# Altium footprint library 器件封装.PCBLIB: 225 footprints (part 7 of 15)
Each footprint in its own frame and in the unit in brackets; x right, y up, seen from the top. Pads: shape width x height; smd on the part's side, far side on the other; paste and mask are expansions set on the pad; w line width, h text height; cw(c..) or ccw(c..) is an arc to the next point about the centre after c.
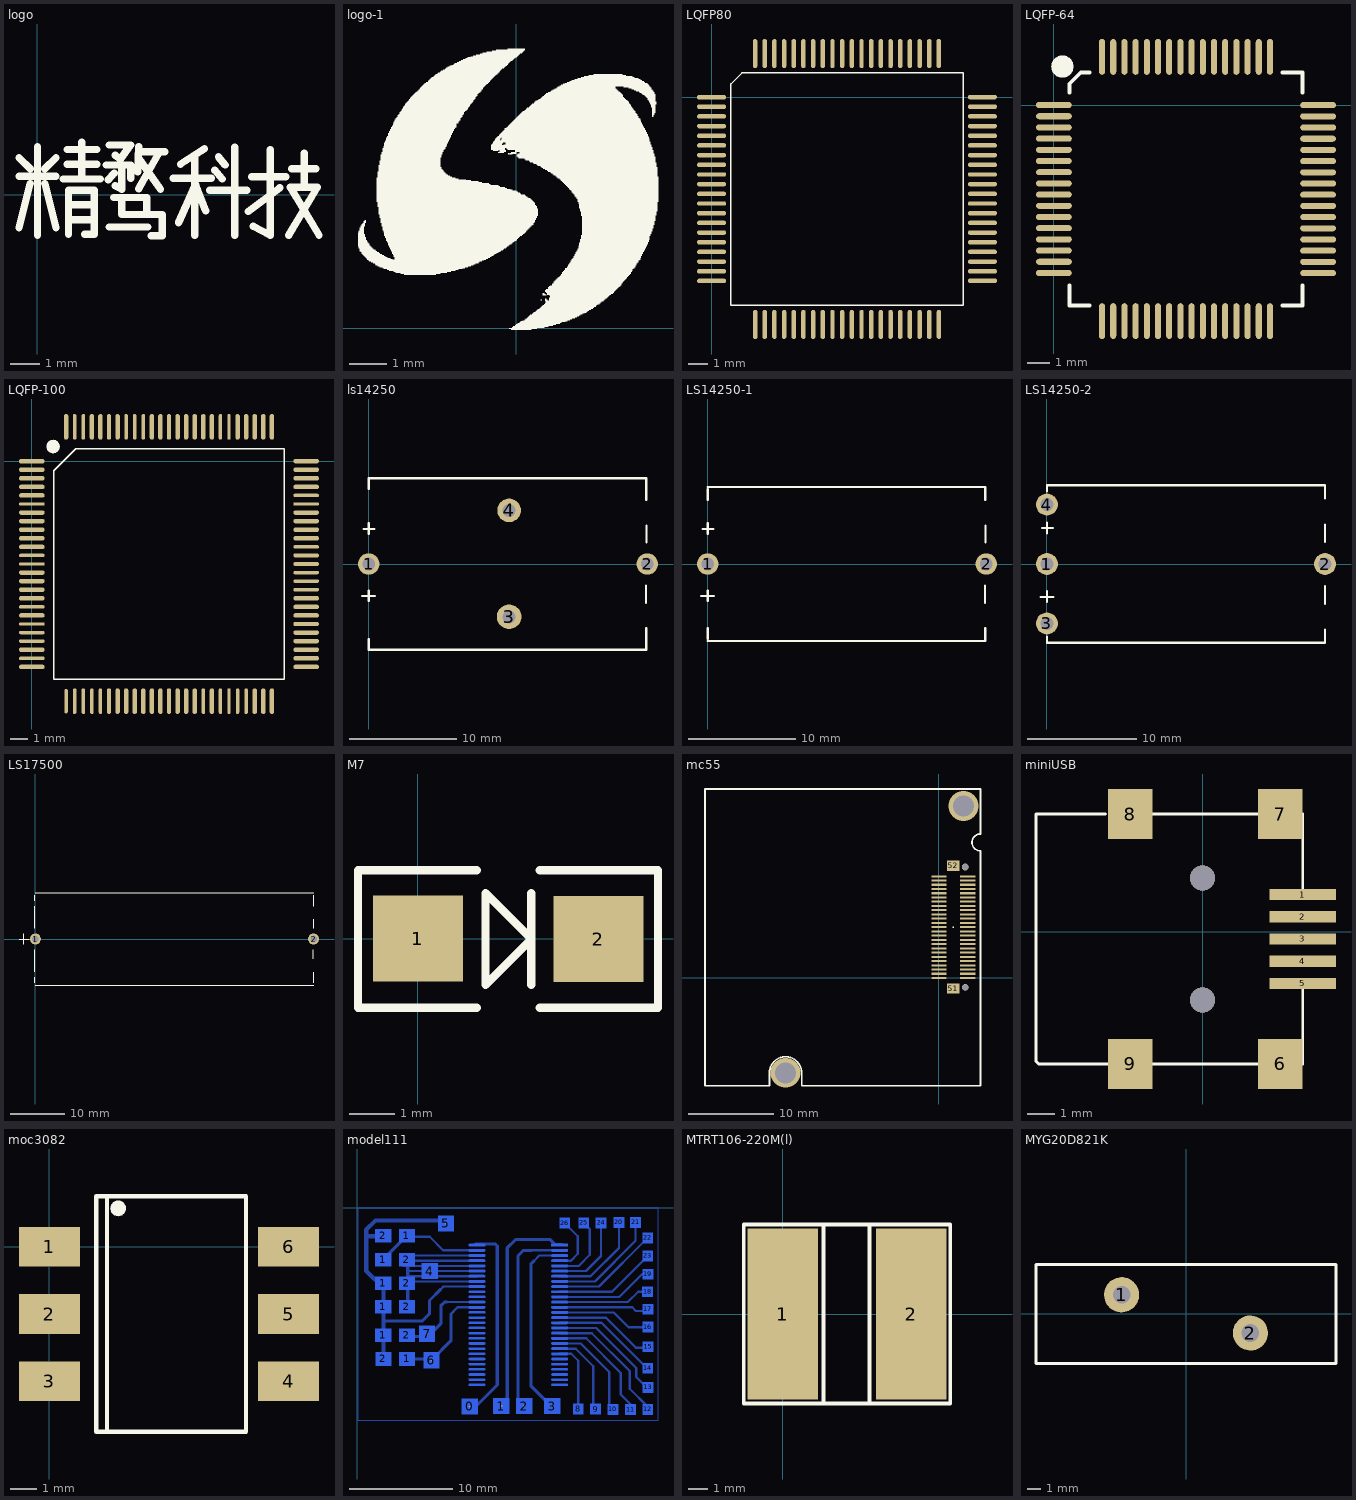
[diagram p6: the footprints below, top view; thin cyan lines are the x and y axes]

## logo [mm]
TopOverlay:
  lines w0.254: -0.635,-1.143 -0.254,0.381 ; -0.635,0.635 0.635,0.635 ; -0.635,1.27 -0.254,0.889 ; 0,-1.397 0,1.651 ; 0.254,0.381 0.635,-1.143 ; 0.254,0.889 0.635,1.27 ; 0.889,0.533 2.159,0.533 ; 1.016,1.041 2.032,1.041 ; 1.016,1.549 2.032,1.549 ; 1.067,-1.372 1.067,0.152 1.956,0.152 1.956,-1.372 1.626,-1.372 ; 1.067,-0.864 1.956,-0.864 ; 1.067,-0.356 1.956,-0.356 ; 1.524,0.533 1.524,1.803 ; 2.362,1.016 3.2,1.016 3.2,0.559 ; 2.438,0.508 2.642,0.737 ; 2.464,-1.118 3.785,-1.118 ; 2.464,1.702 3.2,1.702 2.845,1.219 2.667,1.346 ; 2.616,-0.102 3.759,-0.102 3.759,-0.66 ; 2.667,0.305 2.896,0.178 2.896,1.016 ; 2.896,-0.102 2.896,-0.686 4.293,-0.686 4.293,-1.422 3.912,-1.422 ; 3.445,0.787 3.48,1.651 ; 3.464,1.259 4.228,0.186 ; 3.472,1.467 4.373,1.468 ; 3.48,0.203 4.143,1.371 ; 4.674,0.559 5.969,0.559 ; 4.849,-0.967 5.41,0.305 ; 4.917,1.047 5.742,1.573 ; 5.41,-1.397 5.41,1.245 ; 5.436,0.33 5.781,-0.552 ; 5.918,0.152 7.188,0.152 ; 6.096,0.838 6.35,0.533 ; 6.223,1.295 6.452,1.016 ; 6.782,-1.397 6.782,1.626 ; 7.239,-0.584 8.331,0.229 ; 7.366,0.61 8.534,0.61 ; 7.417,-1.092 8.001,-1.397 8.001,1.549 ; 8.636,-1.397 9.627,0.254 8.687,0.254 9.677,-1.397 ; 8.738,0.889 9.576,0.889 ; 9.169,0.254 9.169,1.422

## logo-1 [mm]
TopOverlay:
  drawing of 605 lines, arcs and shapes, not listed

## LQFP80 [mm]
pads (80):
  oct 1.5x0.23 smd: 1(0,0) 41(14,-9.5)
  oval 1.5x0.23 smd: 2(0,-0.5) 3(0,-1) 4(0,-1.5) 5(0,-2) 6(0,-2.5) 7(0,-3) 8(0,-3.5) 9(0,-4) 10(0,-4.5) 11(0,-5) 12(0,-5.5) 13(0,-6) 14(0,-6.5) 15(0,-7) 16(0,-7.5) 17(0,-8) 18(0,-8.5) 19(0,-9) 20(0,-9.5) 42(14,-9) 43(14,-8.5) 44(14,-8) 45(14,-7.5) 46(14,-7) 47(14,-6.5) 48(14,-6) 49(14,-5.5) 50(14,-5) 51(14,-4.5) 52(14,-4) 53(14,-3.5) 54(14,-3) 55(14,-2.5) 56(14,-2) 57(14,-1.5) 58(14,-1) 59(14,-0.5) 60(14,0)
  oct 0.23x1.5 smd: 21(2.25,-11.75) 61(11.75,2.25)
  oval 0.23x1.5 smd: 22(2.75,-11.75) 23(3.25,-11.75) 24(3.75,-11.75) 25(4.25,-11.75) 26(4.75,-11.75) 27(5.25,-11.75) 28(5.75,-11.75) 29(6.25,-11.75) 30(6.75,-11.75) 31(7.25,-11.75) 32(7.75,-11.75) 33(8.25,-11.75) 34(8.75,-11.75) 35(9.25,-11.75) 36(9.75,-11.75) 37(10.25,-11.75) 38(10.75,-11.75) 39(11.25,-11.75) 40(11.75,-11.75) 62(11.25,2.25) 63(10.75,2.25) 64(10.25,2.25) 65(9.75,2.25) 66(9.25,2.25) 67(8.75,2.25) 68(8.25,2.25) 69(7.75,2.25) 70(7.25,2.25) 71(6.75,2.25) 72(6.25,2.25) 73(5.75,2.25) 74(5.25,2.25) 75(4.75,2.25) 76(4.25,2.25) 77(3.75,2.25) 78(3.25,2.25) 79(2.75,2.25) 80(2.25,2.25)
TopOverlay:
  lines w0.076: 1,0.68 1,-10.75 13,-10.75 13,1.25 1.57,1.25
  lines w0.08: 1,0.68 1.57,1.25

## LQFP-64 [mm]
pads (65):
  oval 1.6x0.27 smd: 1(0,0) 2(0,-0.5) 3(0,-1) 4(0,-1.5) 5(0,-2) 6(0,-2.5) 7(0,-3) 8(0,-3.5) 9(0,-4) 10(0,-4.5) 11(0,-5) 12(0,-5.5) 13(0,-6) 14(0,-6.5) 15(0,-7) 16(0,-7.5) 33(11.8,-7.505) 34(11.8,-7.005) 35(11.8,-6.505) 36(11.8,-6.005) 37(11.8,-5.505) 38(11.8,-5.005) 39(11.8,-4.505) 40(11.8,-4.005) 41(11.8,-3.505) 42(11.8,-3.005) 43(11.8,-2.505) 44(11.8,-2.005) 45(11.8,-1.505) 46(11.8,-1.005) 47(11.8,-0.505) 48(11.8,-0.005)
  oval 0.27x1.6 smd: 17(2.15,-9.65) 18(2.65,-9.65) 19(3.15,-9.65) 20(3.65,-9.65) 21(4.15,-9.65) 22(4.65,-9.65) 23(5.15,-9.65) 24(5.65,-9.65) 25(6.15,-9.65) 26(6.65,-9.65) 27(7.15,-9.65) 28(7.65,-9.65) 29(8.15,-9.65) 30(8.65,-9.65) 31(9.15,-9.65) 32(9.65,-9.65) 49(9.65,2.15) 50(9.15,2.15) 51(8.65,2.15) 52(8.15,2.15) 53(7.65,2.15) 54(7.15,2.15) 55(6.65,2.15) 56(6.15,2.15) 57(5.65,2.15) 58(5.15,2.15) 59(4.65,2.15) 60(4.15,2.15) 61(3.65,2.15) 62(3.15,2.15) 63(2.65,2.15) 64(2.15,2.15)
  round 1 on Top Overlay: ""(0.38,1.72)
TopOverlay:
  lines w0.17: 0.7,-8.05 0.7,-8.95 1.6,-8.95 ; 0.7,0.55 0.7,0.95 1.2,1.45 1.6,1.45 ; 10.2,-8.95 11.1,-8.95 11.1,-8.05 ; 10.2,1.45 11.1,1.45 11.1,0.55

## LQFP-100 [mm]
pads (101):
  oct 1.5x0.26 smd: 1(0,0)
  oval 1.5x0.26 smd: 2(0,-0.5) 3(0,-1) 4(0,-1.5) 5(0,-2) 7(0,-3) 8(0,-3.5) 9(0,-4) 10(0,-4.5) 11(0,-5) 14(0,-6.5) 15(0,-7) 16(0,-7.5) 17(0,-8) 19(0,-9) 23(0,-11) 25(0,-12) 51(16,-12) 52(16,-11.5) 53(16,-11) 54(16,-10.5) 55(16,-10) 56(16,-9.5) 57(16,-9) 58(16,-8.5) 59(16,-8) 66(16,-4.5) 67(16,-4) 68(16,-3.5) 69(16,-3) 72(16,-1.5) 73(16,-1) 74(16,-0.5) 75(16,0)
  oval 1.5x0.2 smd: 6(0,-2.5) 12(0,-5.5) 13(0,-6) 18(0,-8.5) 20(0,-9.5) 21(0,-10) 22(0,-10.5) 24(0,-11.5) 60(16,-7.5) 61(16,-7) 62(16,-6.5) 65(16,-5) 70(16,-2.5) 71(16,-2)
  oval 0.2x1.422 smd: 26(2,-14)
  oval 0.2x1.5 smd: 27(2.5,-14) 28(3,-14) 29(3.5,-14) 30(4,-14) 42(10,-14) 44(11,-14) 45(11.5,-14) 46(12,-14) 47(12.5,-14) 81(11.5,2) 82(11,2) 91(6.5,2) 92(6,2) 93(5.5,2) 98(3,2) 99(2.5,2)
  oval 0.26x1.5 smd: 31(4.5,-14) 32(5,-14) 33(5.5,-14) 34(6,-14) 35(6.5,-14) 36(7,-14) 37(7.5,-14) 38(8,-14) 39(8.5,-14) 40(9,-14) 41(9.5,-14) 43(10.5,-14) 48(13,-14) 49(13.5,-14) 50(14,-14) 76(14,2) 77(13.5,2) 78(13,2) 79(12.5,2) 80(12,2) 83(10.5,2) 84(10,2) 85(9.5,2) 86(9,2) 87(8.5,2) 88(8,2) 89(7.5,2) 90(7,2) 94(5,2) 95(4.5,2) 96(4,2) 97(3.5,2) 100(2,2)
  oval 1.5x0.23 smd: 63(16,-6) 64(16,-5.5)
  round 0.8 on Top Overlay: ""(1.24,0.85)
TopOverlay:
  lines w0.076: 1.285,-12.715 1.285,-0.57 2.57,0.715 14.715,0.715 14.715,-12.715 1.285,-12.715

## ls14250 [mm]
pads (4):
  round 2 hole 1.2: 1(0,0) 2(26,0)
  round 2.3 hole 1.2: 3(13.1,-4.93)
  round 2.2 hole 1.2: 4(13.1,5)
TopOverlay:
  lines w0.2: -0.6,-3 0.6,-3 ; -0.46,3.28 0.54,3.28 ; 0,-7 0,-8 ; 0,-3.464 0,-2.464 ; 0,2.8 0,3.8 ; 0,7 0,8 ; 1,-8 0,-8 ; 1,8 0,8 ; 25.89,-3.65 25.89,-2 ; 25.9,-6 25.9,-8 0,-8 ; 25.9,5.98 25.9,8 0,8 ; 25.92,2.01 25.92,3.59

## LS14250-1 [mm]
pads (2):
  round 2 hole 1.2: 1(0,0) 2(26,0)
TopOverlay:
  lines w0.2: -0.6,-3 0.6,-3 ; -0.46,3.28 0.54,3.28 ; 0,-7.2 25.9,-7.2 25.9,-5.98 ; 0,-6.984 0,-5.984 ; 0,-3.464 0,-2.464 ; 0,2.8 0,3.8 ; 0,5.984 0,6.984 ; 0,7.2 25.9,7.2 25.9,5.98 ; 25.89,-3.65 25.89,-2 ; 25.92,2.01 25.92,3.59

## LS14250-2 [mm]
pads (4):
  round 2 hole 1.2: 1(0,0) 2(25.4,0) 3(0,-5.43) 4(0,5.43)
TopOverlay:
  lines w0.2: -0.6,-3 0.6,-3 ; -0.46,3.28 0.54,3.28 ; 0,-6.65 0,-7.2 25.4,-7.2 25.4,-5.98 ; 0,-3.464 0,-2.464 ; 0,2.8 0,3.8 ; 0,6.65 0,7.2 25.4,7.2 25.4,5.98 ; 25.4,-3.65 25.4,-2 ; 25.4,2.01 25.4,3.59

## LS17500 [mm]
pads (2):
  round 2 hole 1.2: 1(0,0) 2(50.9,0)
TopOverlay:
  lines w0.2: -3,0 -1.1,0 ; -2.1,-1 -2.1,1 ; -0.1,-8 -0.1,-7 ; -0.1,-6 -0.1,-2 ; -0.1,2 -0.1,6 ; -0.1,7 -0.1,8 ; 0,-8.5 50.9,-8.5 ; 0,8.5 50.9,8.5 ; 50.89,-3.65 50.89,-2 ; 50.9,-8 50.9,-6.1 ; 50.9,5.98 50.9,8 ; 50.92,2.01 50.92,3.59

## M7 [mm]
pads (2):
  rect 2x1.9 smd: 1(0,0) 2(4,-0.01)
TopOverlay:
  lines w0.185: 1.3,-1.534 -1.33,-1.534 -1.33,1.514 1.3,1.514 ; 2.512,-1.026 2.512,1.006 ; 2.7,-1.534 5.32,-1.534 5.32,1.514 2.7,1.514 ; 1.496,-1.026 1.496,1.006 2.512,-0.01 1.496,-1.026

## mc55 [mm]
pads (53):
  round 0.2 on Top Overlay: 0(1.7,6)
  rect 1.8x0.24 smd: 1(0,0) 2(0,0.5) 3(0,1) 4(0,1.5) 5(0,2) 6(0,2.5) 7(0,3) 8(0,3.5) 9(0,4) 10(0,4.5) 11(0,5) 12(0,5.5) 13(0,6) 14(0,6.5) 15(0,7) 16(0,7.5) 17(0,8) 18(0,8.5) 19(0,9) 20(0,9.5) 21(0,10) 22(0,10.5) 23(0,11) 24(0,11.5) 25(0,12) 26(3.4,12) 27(3.4,11.5) 28(3.4,11) 29(3.4,10.5) 30(3.4,10) 31(3.4,9.5) 32(3.4,9) 33(3.4,8.5) 34(3.4,8) 35(3.4,7.5) 36(3.4,7) 37(3.4,6.5) 38(3.4,6) 39(3.4,5.5) 40(3.4,5) 41(3.4,4.5) 42(3.4,4) 43(3.4,3.5) 44(3.4,3) 45(3.4,2.5) 46(3.4,2) 47(3.4,1.5) 48(3.4,1) 49(3.4,0.5) 50(3.4,0)
  rect 1.5x1.2 smd: 51(1.7,-1.25) 52(1.7,13.25)
via 3.1,13.1 diameter 0.8 hole 0.72
via 3.1,-1.1 diameter 0.8 hole 0.72
via 2.9,20.3 diameter 3.5 hole 2.5
via -18.1,-11.2 diameter 3.5 hole 2.5
TopOverlay:
  lines w0.2: -27.6,-12.7 -20,-12.7 -20,-11.2 cw(c-18.1,-11.2) -16.2,-11.2 -16.2,-12.7 4.9,-12.7 4.9,15 cw(c4.9,16) 4.9,17 4.9,22.3 -27.6,22.3 -27.6,-12.7

## miniUSB [mm]
pads (9):
  rect 2.4x0.4 smd: 1(3.602,1.33) 2(3.602,0.53) 3(3.602,-0.27) 4(3.602,-1.07) 5(3.602,-1.87)
  rect 1.6x1.8 smd: 6(2.802,-4.77) 7(2.802,4.23) 8(-2.598,4.23) 9(-2.598,-4.77)
via 0.002,1.93 diameter 0.9 hole 0.9
via 0.002,-2.47 diameter 0.9 hole 0.9
TopOverlay:
  lines w0.1: -3.498,4.23 -5.998,4.23 -5.998,-4.67 -5.898,-4.77 -3.398,-4.77 ; -1.798,-4.77 2.002,-4.77 ; -1.798,4.23 2.002,4.23 ; 3.602,-4.77 3.602,-2.07 ; 3.602,1.53 3.602,4.23

## moc3082 [mm]
pads (7):
  rect 2.3x1.5 smd: 1(0,0) 2(0,-2.54) 3(0,-5.08) 4(9.03,-5.08) 5(9.03,-2.54) 6(9.03,0)
  round 0.6 on Top Overlay: ""(2.595,1.45)
TopOverlay:
  lines w0.16: 1.77,-6.99 1.77,1.91 7.4,1.91 ; 1.79,-6.99 7.41,-6.99 ; 2.17,-6.99 2.17,1.91 ; 7.42,-6.99 7.42,1.91

## model111 [mm]
pads (95):
  rect 1.524x1.524 on Bottom hole 0.2: 0(10.846,-19.19) 1(13.916,-19.15) 2(16.116,-19.15) 3(18.836,-19.15) 4(6.996,-6.1) 5(8.556,-1.5) 6(7.156,-14.73) 7(6.736,-12.17)
  rect 1.524x1.27 smd far side: 1(2.5,-12.31) 1(2.5,-9.55) 1(2.5,-7.26) 1(2.504,-4.99) 1(4.786,-2.7) 1(4.797,-14.6) 2(2.5,-2.7) 2(2.511,-14.6) 2(4.786,-12.31) 2(4.786,-9.55) 2(4.786,-7.26) 2(4.79,-4.99)
  rect 1.6x0.24 smd far side: 1(19.556,-3.6)
  oval 1.6x0.24 smd far side: 2(19.556,-4.1) 3(19.556,-4.6) 4(19.556,-5.1) 5(19.556,-5.6) 6(19.556,-6.1) 7(19.556,-6.6) 8(19.556,-7.1) 9(19.556,-7.6) 10(19.556,-8.1) 11(19.556,-8.6) 12(19.556,-9.1) 13(19.556,-9.6) 14(19.556,-10.1) 15(19.556,-10.6) 16(19.556,-11.1) 17(19.556,-11.6) 18(19.556,-12.1) 19(19.556,-12.6) 20(19.556,-13.1) 21(19.556,-13.6) 22(19.556,-14.1) 44(11.556,-9.6) 45(11.556,-9.1) 48(11.556,-7.6) 49(11.556,-7.1) 50(11.556,-6.6) 51(11.556,-6.1) 52(11.556,-5.6) 53(11.556,-5.1) 54(11.556,-4.6) 55(11.556,-4.1) 56(11.556,-3.6)
  rect 1x1 smd far side: 8(21.346,-19.43) 9(23.016,-19.44) 10(24.706,-19.48) 11(26.406,-19.49) 12(28.066,-19.47) 13(28.096,-17.34) 14(28.066,-15.5) 15(28.096,-13.42) 16(28.076,-11.52) 17(28.076,-9.79) 18(28.056,-8.1) 19(28.076,-6.41) 20(25.276,-1.39) 21(26.886,-1.39) 22(28.066,-2.89) 23(28.066,-4.64) 24(23.546,-1.45) 25(21.876,-1.45) 26(20.046,-1.47)
  oval 1.6x0.2 smd far side: 23(19.556,-14.6) 24(19.556,-15.1) 25(19.556,-15.6) 26(19.556,-16.1) 27(19.556,-16.6) 28(19.556,-17.1) 29(11.556,-17.1) 30(11.556,-16.6) 31(11.556,-16.1) 32(11.556,-15.6) 33(11.556,-15.1) 34(11.556,-14.6) 35(11.556,-14.1) 36(11.556,-13.6) 37(11.556,-13.1) 38(11.556,-12.6) 39(11.556,-12.1) 40(11.556,-11.6) 41(11.556,-11.1) 42(11.556,-10.6) 43(11.556,-10.1) 46(11.556,-8.6) 47(11.556,-8.1)
BottomLayer:
  lines w0.1: 0.056,-20.5 29.056,-20.5 29.056,-0.5 29.056,0 0.056,0 0.056,-20.5
  lines w0.22: 2.504,-4.99 2.504,-4.952 ; 4.316,-4.6 11.556,-4.6 ; 4.446,-5.6 11.556,-5.6 ; 4.676,-2.78 6.986,-2.78 8.306,-4.1 11.556,-4.1 ; 4.79,-6.1 11.556,-6.1 ; 4.82,-7.1 11.556,-7.1 ; 4.82,-6.6 11.556,-6.6 ; 4.946,-5.1 11.556,-5.1 ; 8.048,-7.868 8.316,-7.6 11.556,-7.6 9.506,-7.6 ; 8.676,-9.1 11.556,-9.1 ; 9.036,-10.24 9.676,-9.6 11.556,-9.6 ; 16.826,-4.1 19.556,-4.1 ; 17.046,-5.14 17.586,-4.6 19.556,-4.6 ; 19.556,-14.1 20.666,-14.1 21.346,-14.78 21.346,-19.43 ; 19.556,-13.6 21.096,-13.6 22.796,-15.3 22.796,-19.55 ; 19.556,-13.1 21.586,-13.1 24.356,-15.87 24.356,-19.56 ; 19.556,-12.6 22.116,-12.6 25.466,-15.95 25.466,-18.03 26.406,-18.97 26.406,-19.49 ; 19.556,-12.1 22.656,-12.1 26.326,-15.77 26.326,-17.47 28.036,-19.18 28.036,-19.61 ; 19.556,-11.6 23.096,-11.6 26.956,-15.46 26.956,-16.34 28.016,-17.4 ; 19.556,-11.1 23.586,-11.1 27.986,-15.5 ; 19.556,-10.6 24.016,-10.6 26.916,-13.5 27.976,-13.5 ; 19.556,-10.1 24.776,-10.1 26.196,-11.52 28.076,-11.52 ; 19.556,-9.6 26.566,-9.6 26.916,-9.95 28.276,-9.95 ; 19.556,-9.1 26.136,-9.1 27.136,-8.1 28.056,-8.1 ; 19.556,-8.6 25.316,-8.6 27.506,-6.41 28.076,-6.41 ; 19.556,-8.1 24.606,-8.1 28.066,-4.64 ; 19.556,-7.6 23.356,-7.6 28.066,-2.89 ; 19.556,-7.1 22.956,-7.1 26.886,-3.17 26.886,-1.39 ; 19.556,-6.6 22.536,-6.6 25.276,-3.86 25.276,-1.39 ; 19.556,-6.1 22.096,-6.1 23.546,-4.65 23.546,-1.45 ; 19.556,-5.6 21.386,-5.6 22.466,-4.52 22.466,-2.04 21.876,-1.45 ; 19.556,-5.1 20.636,-5.1 21.306,-4.43 21.306,-2.73 20.046,-1.47
  lines w0.3: 2.504,-4.952 4.676,-2.78 ; 2.511,-10.93 6.276,-10.93 6.966,-10.24 6.966,-8.95 8.048,-7.868 ; 4.797,-14.6 7.286,-14.6 9.036,-12.85 9.036,-10.24 ; 4.866,-9.47 4.866,-5.04 ; 4.906,-12.44 6.806,-12.44 8.066,-11.18 8.066,-9.45 8.416,-9.1 8.676,-9.1 ; 10.846,-19.19 11.436,-19.19 13.516,-17.11 13.516,-3.68 13.326,-3.49 11.436,-3.49 ; 13.696,-19.15 14.486,-18.36 14.486,-3.86 15.286,-3.06 18.646,-3.06 19.116,-3.53 19.776,-3.53 ; 15.896,-19.12 15.526,-18.75 15.526,-4.63 16.056,-4.1 16.826,-4.1 ; 17.046,-5.14 16.766,-5.42 16.766,-17.19 18.846,-19.27
  lines w0.4: 0.856,-2.74 2.566,-2.74 ; 2.511,-14.5 2.511,-7.755 0.856,-6.1 0.856,-2.1 1.756,-1.2 8.256,-1.2 8.656,-1.6
BottomOverlay:
  lines w0.2: 3.135,-3.843 1.23,-3.843 1.23,-1.557 3.135,-1.557 ; 3.135,-13.453 1.23,-13.453 1.23,-11.167 3.135,-11.167 ; 3.135,-10.693 1.23,-10.693 1.23,-8.407 3.135,-8.407 ; 3.135,-8.403 1.23,-8.403 1.23,-6.117 3.135,-6.117 ; 3.139,-6.133 1.234,-6.133 1.234,-3.847 3.139,-3.847 ; 3.146,-15.743 1.241,-15.743 1.241,-13.457 3.146,-13.457 ; 4.151,-3.843 6.056,-3.843 6.056,-1.557 4.151,-1.557 ; 4.151,-13.453 6.056,-13.453 6.056,-11.167 4.151,-11.167 ; 4.151,-10.693 6.056,-10.693 6.056,-8.407 4.151,-8.407 ; 4.151,-8.403 6.056,-8.403 6.056,-6.117 4.151,-6.117 ; 4.155,-6.133 6.06,-6.133 6.06,-3.847 4.155,-3.847 ; 4.162,-15.743 6.067,-15.743 6.067,-13.457 4.162,-13.457 ; 16.056,-3.35 cw(c15.556,-3.35) 15.056,-3.35 13.191,-3.35 13.191,-17.35 17.921,-17.35 17.921,-3.35 16.066,-3.35

## MTRT106-220M(l) [mm]
pads (2):
  rect 3.6x8.8 smd: 1(0,0) 2(6.6,0)
TopOverlay:
  lines w0.2: -2,-4.6 8.6,-4.6 ; -2,-4.572 -2,4.572 ; -2,4.6 8.6,4.6 ; 2.1,-4.6 2.1,4.6 ; 4.45,-4.6 4.45,4.6 ; 8.6,-4.572 8.6,4.572

## MYG20D821K [mm]
pads (2):
  round 2.6 hole 1.3: 1(-4.75,1.41) 2(4.75,-1.41)
TopOverlay:
  lines w0.2: -11.069,-3.657 11.069,-3.657 11.069,3.643 -11.069,3.643 -11.069,-3.657